# EAGLE library part 10PIN (library C3-Connector)
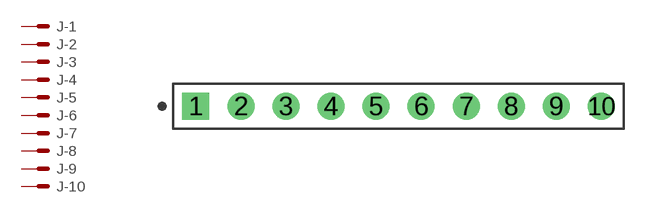
[diagram p18: symbol with the pads of 100-10X1-HEADER; footprint 100-10X1-HEADER]

Designator prefix J; gates -1=M -2=M -3=M -4=M -5=M -6=M -7=M -8=M -9=M -10=M

## 10PIN100  [100-10X1-HEADER]
1  -1:S  pas
2  -2:S  pas
3  -3:S  pas
4  -4:S  pas
5  -5:S  pas
6  -6:S  pas
7  -7:S  pas
8  -8:S  pas
9  -9:S  pas
10  -10:S  pas

## Footprint 100-10X1-HEADER (pad centres in mm)
drill 1.016 square: 1 -11.43,0
drill 1.016: 2 -8.89,0; 3 -6.35,0; 4 -3.81,0; 5 -1.27,0; 6 1.27,0; 7 3.81,0; 8 6.35,0; 9 8.89,0; 10 11.43,0